# Altium schematic symbol library J20MM.Schlib: 1 symbol
Pins are listed as number, name and electrical type; pins without a type are passive.

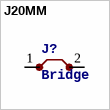
[diagram p0: symbol J20MM]

## J20MM
designator J?, comment Bridge
footprint 20
pins: 1, 2